# Altium schematic symbol library SamacSys.SchLib: 12 symbols
Pins are listed as number, name and electrical type; pins without a type are passive.

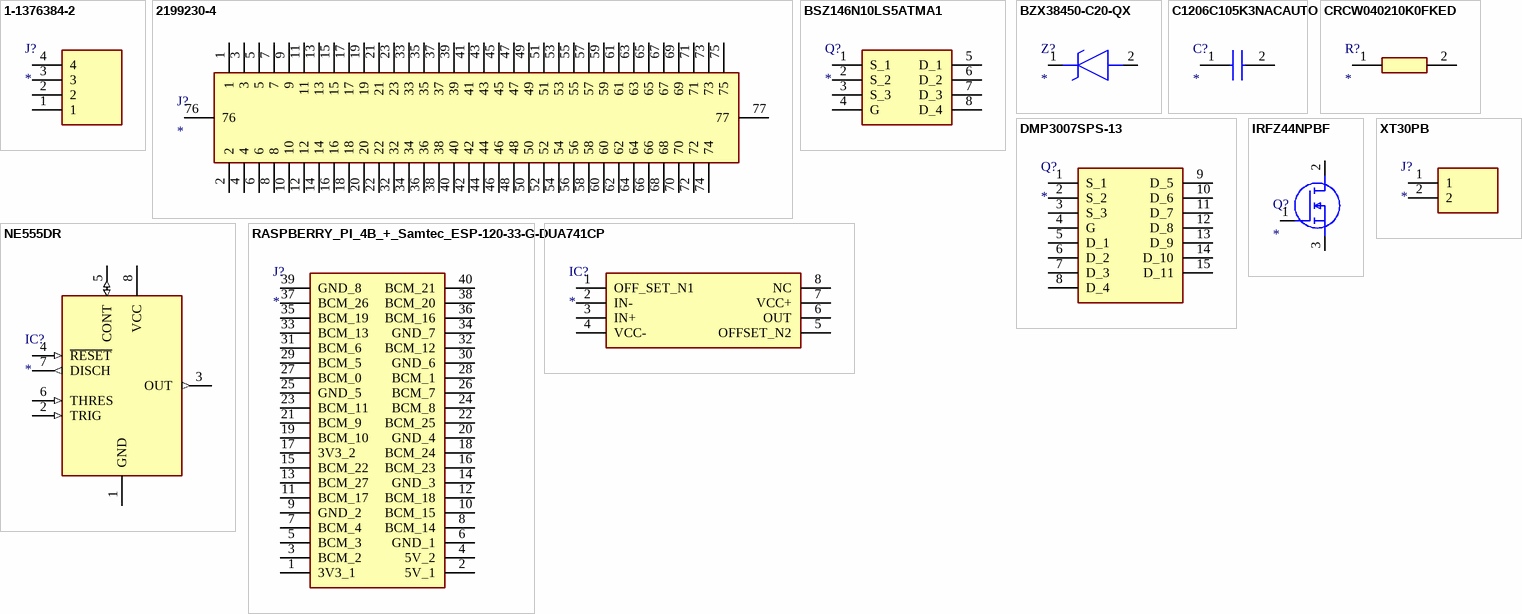
[diagram p0: symbols 1-1376384-2 to XT30PB]

## 1-1376384-2
designator J?
Connector; Manufacturer_Name: TE Connectivity; Manufacturer_Part_Number: 1-1376384-2; Datasheet Link: https://www.te.com/commerce/DocumentDelivery/DDEController?Action=showdoc&DocId=Customer+Drawing%7F1376384%7FE5%7Fpdf%7FEnglish%7FENG_CD_1376384_E5.pdf%7F1-1376384-2; Height: 14.3mm
footprint 113763842
pins: 1, 2, 3, 4

## 2199230-4
designator J?
Connector; Manufacturer_Name: TE Connectivity; Manufacturer_Part_Number: 2199230-4; Datasheet Link: https://componentsearchengine.com//2199230-4.pdf; Mouser2 Part Number: 571-2199230-4; Mouser2 Price/Stock: https://www.mouser.com/Search/Refine.aspx?Keyword=571-2199230-4
footprint 21992304
pins: 1, 2, 3, 4, 5, 6, 7, 8, 9, 10, 11, 12, 13, 14, 15, 16, 17, 18, 19, 20, 21, 22, 23, 32, 33, 34, 35, 36, 37, 38, 39, 40, 41, 42, 43, 44, 45, 46, 47, 48, 49, 50, 51, 52, 53, 54, 55, 56, 57, 58, 59, 60, 61, 62, 63, 64, 65, 66, 67, 68, 69, 70, 71, 72, 73, 74, 75, 76, 77

## BSZ146N10LS5ATMA1
designator Q?
MOSFET (N-Channel); Manufacturer_Name: Infineon; Manufacturer_Part_Number: BSZ146N10LS5ATMA1; Datasheet Link: https://www.infineon.com/dgdl/Infineon-BSZ146N10LS5-DS-v02_02-EN.pdf?fileId=5546d4625696ed760156e6c1a0a327fc; Mouser Part Number: 726-BSZ146N10LS5ATMA; Mouser Price/Stock: https://www.mouser.co.uk/ProductDetail/Infineon-Technologies/BSZ146N10LS5ATMA1/?qs=fzAzNaZoZhYkZBAZ6jgNLw%3D%3D; Arrow Part Number: BSZ146N10LS5ATMA1; Arrow Price/Stock: https://www.arrow.com/en/products/bsz146n10ls5atma1/infineon-technologies-ag
footprint TSDSON-8FL
pins: 1 S_1, 2 S_2, 3 S_3, 4 G, 5 D_1, 6 D_2, 7 D_3, 8 D_4

## BZX38450-C20-QX
designator Z?
Zener Diode; Manufacturer_Name: Nexperia; Manufacturer_Part_Number: BZX38450-C20-QX; Datasheet Link: https://assets.nexperia.com/documents/data-sheet/BZX38450-Q_SER.pdf; Height: 1.1mm; Mouser Part Number: 771-BZX38450-C20-QX; Mouser Price/Stock: https://www.mouser.co.uk/ProductDetail/Nexperia/BZX38450-C20-QX?qs=7D1LtPJG0i066wYTm2%252BdVQ%3D%3D
footprint BZX38450C20QX
pins: 1 K, 2 A

## C1206C105K3NACAUTO
designator C?
Capacitor; Manufacturer_Name: KEMET; Manufacturer_Part_Number: C1206C105K3NACAUTO; Datasheet Link: https://content.kemet.com/datasheets/KEM_C1008_X8L_150C_SMD.pdf; Mouser Part Number: 80-C1206C105K3NAUTO; Mouser Price/Stock: https://www.mouser.co.uk/ProductDetail/KEMET/C1206C105K3NACAUTO?qs=KosDah%252BIqW80OcpWuLU%2FTg%3D%3D; Arrow Part Number: C1206C105K3NACAUTO; Arrow Price/Stock: https://www.arrow.com/en/products/c1206c105k3nacauto/kemet-corporation?region=nac
footprint C1206
pins: 1, 2

## CRCW040210K0FKED
designator R?
Resistor; Manufacturer_Name: Vishay; Manufacturer_Part_Number: CRCW040210K0FKED; Datasheet Link: http://www.vishay.com/docs/20035/dcrcwe3.pdf; Height: 0.4mm; Mouser Part Number: 71-CRCW0402-10K-E3; Mouser Price/Stock: https://www.mouser.co.uk/ProductDetail/Vishay-Dale/CRCW040210K0FKED?qs=rlE3Te1NifyN3e8vvxacSw%3D%3D; Arrow Part Number: CRCW040210K0FKED; Arrow Price/Stock: https://www.arrow.com/en/products/crcw040210k0fked/vishay?region=nac
footprint RESC1005X40N
pins: 1, 2

## DMP3007SPS-13
designator Q?
MOSFET (P-Channel); Manufacturer_Name: Diodes Inc.; Manufacturer_Part_Number: DMP3007SPS-13; Datasheet Link: https://www.diodes.com/assets/Datasheets/DMP3007SPS.pdf; Height: 1.1mm; Mouser Part Number: 621-DMP3007SPS-13; Mouser Price/Stock: https://www.mouser.co.uk/ProductDetail/Diodes-Incorporated/DMP3007SPS-13?qs=lqAf%2FiVYw9gUw3j1lYiG9g%3D%3D; Arrow Part Number: DMP3007SPS-13; Arrow Price/Stock: https://www.arrow.com/en/products/dmp3007sps-13/diodes-incorporated
footprint DMP3007SPS13
pins: 1 S_1, 2 S_2, 3 S_3, 4 G, 5 D_1, 6 D_2, 7 D_3, 8 D_4, 9 D_5, 10 D_6, 11 D_7, 12 D_8, 13 D_9, 14 D_10, 15 D_11

## IRFZ44NPBF
designator Q?
MOSFET (N-Channel); Manufacturer_Name: Infineon; Manufacturer_Part_Number: IRFZ44NPBF; Datasheet Link: https://www.infineon.com/dgdl/irfz44npbf.pdf?fileId=5546d462533600a40153563b3a9f220d; Height: 4.83mm; Mouser Part Number: 942-IRFZ44NPBF; Mouser Price/Stock: https://www.mouser.co.uk/ProductDetail/Infineon-IR/IRFZ44NPBF?qs=9%252BKlkBgLFf24zghzPg2f9g%3D%3D; Arrow Part Number: IRFZ44NPBF; Arrow Price/Stock: https://www.arrow.com/en/products/irfz44npbf/infineon-technologies-ag?region=nac
footprint TO254P483X1016X1994-3P
pins: 1 G, 2 D, 3 S

## NE555DR
designator IC?
Integrated Circuit; Manufacturer_Name: Texas Instruments; Manufacturer_Part_Number: NE555DR; Datasheet Link: http://www.ti.com/lit/ds/symlink/ne555.pdf; Height: 1.75mm; Mouser Part Number: 595-NE555DR; Mouser Price/Stock: https://www.mouser.com/Search/Refine.aspx?Keyword=595-NE555DR; RS Part Number: 1218414; RS Price/Stock: http://uk.rs-online.com/web/p/products/1218414
footprint SOIC127P600X175-8N
pins: 1 GND (power), 2 TRIG (in), 3 OUT (out), 4 ~{RESET} (in), 5 CONT (io), 6 THRES (in), 7 DISCH (out), 8 VCC (power)

## RASPBERRY_PI_4B_+_Samtec_ESP-120-33-G-D
designator J?
Connector; Manufacturer_Name: RASPBERRY-PI; Manufacturer_Part_Number: RASPBERRY PI 4B + Samtec ESP-120-33-G-D; Datasheet Link: https://www.raspberrypi.org/documentation/hardware/raspberrypi/mechanical/rpi_MECH_4b_4p0.pdf; Height: 24.3mm
footprint RASPBERRYPI4B4GB
pins: 1 3V3_1 (power), 2 5V_1 (power), 3 BCM_2, 4 5V_2 (power), 5 BCM_3, 6 GND_1 (power), 7 BCM_4, 8 BCM_14, 9 GND_2 (power), 10 BCM_15, 11 BCM_17, 12 BCM_18, 13 BCM_27, 14 GND_3 (power), 15 BCM_22, 16 BCM_23, 17 3V3_2 (power), 18 BCM_24, 19 BCM_10, 20 GND_4 (power), 21 BCM_9, 22 BCM_25, 23 BCM_11, 24 BCM_8, 25 GND_5 (power), 26 BCM_7, 27 BCM_0, 28 BCM_1, 29 BCM_5, 30 GND_6 (power), 31 BCM_6, 32 BCM_12, 33 BCM_13, 34 GND_7 (power), 35 BCM_19, 36 BCM_16, 37 BCM_26, 38 BCM_20, 39 GND_8 (power), 40 BCM_21

## UA741CP
designator IC?
Integrated Circuit; Manufacturer_Name: Texas Instruments; Manufacturer_Part_Number: UA741CP; Datasheet Link: http://www.ti.com/lit/ds/symlink/ua741.pdf; Height: 5.08mm; Mouser2 Part Number: 595-UA741CP; Mouser2 Price/Stock: https://www.mouser.com/Search/Refine.aspx?Keyword=595-UA741CP
footprint DIP794W53P254L959H508Q8N
pins: 1 OFF_SET_N1, 2 IN-, 3 IN+, 4 VCC-, 5 OFFSET_N2, 6 OUT, 7 VCC+, 8 NC

## XT30PB
designator J?
Connector; Manufacturer_Name: Amass; Manufacturer_Part_Number: XT30PB; Datasheet Link: https://www.tme.eu/Document/4acc913878197f8c2e30d4b8cdc47230/XT30UPB%20SPEC.pdf; Height: 10.7mm
footprint XT30PB
pins: 1, 2